# Altium schematic symbol library AT42QT1011-TSHR.Schlib: 1 symbol
Pins are listed as number, name and electrical type; pins without a type are passive.

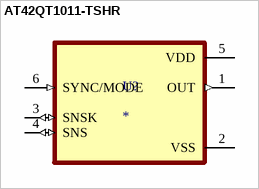
[diagram p0: symbol AT42QT1011-TSHR]

## AT42QT1011-TSHR
designator U?
Capacitive Touch Buttons SOT-23-6; MP: AT42QT1011-TSHR; MF: {'manufacturer': u'Rochester Electronics, LLC'}; LCSC Part #: C112956; JLCPCB Part Type: Extended; ComponentLink1Description: LCSC - Microchip Tech AT42QT1011-TSHR; ComponentLink1URL: https://lcsc.com/product-detail/Touch-Sensors_Microchip-Tech-AT42QT1011-TSHR_C112956.html
footprint SOT95P275X110-6N (SOT, 0.95mm Pitch; 6 Pin, 1.50mm W X 2.90mm L X 1.10mm H Body, IPC Medium Density)
pins: 1 OUT (out), 2 VSS (power), 3 SNSK (io), 4 SNS (io), 5 VDD (power), 6 SYNC/MODE (in)